# Altium footprint library switches.PcbLib: 11 footprints
Each footprint in its own frame and in the unit in brackets; x right, y up, seen from the top. Pads: shape width x height; smd on the part's side, far side on the other; paste and mask are expansions set on the pad; w line width, h text height; cw(c..) or ccw(c..) is an arc to the next point about the centre after c.
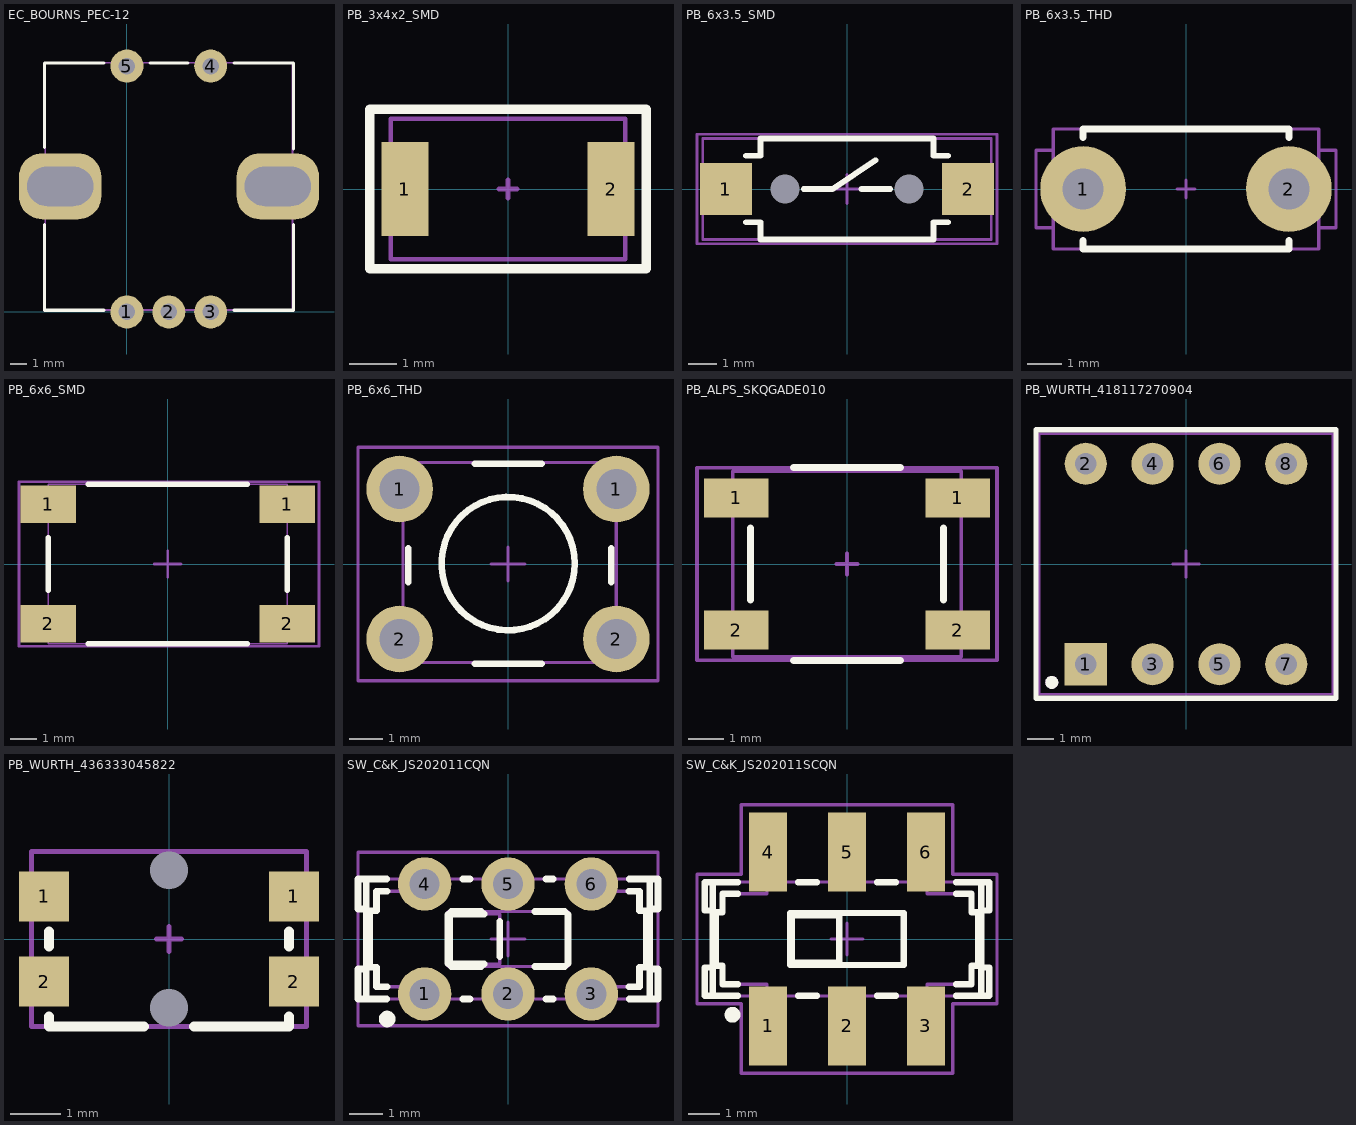
[diagram p0: the footprints below, top view; thin cyan lines are the x and y axes]

## EC_BOURNS_PEC-12 [mm]
pads (7):
  round 2 hole 1: 1(0,0) 2(2.54,0) 3(5.08,0) 4(5.08,14.922) 5(0,14.922)
  rrect70% 5x4 hole 2.4 slot 4 at 0 deg: ""(-4.05,7.625) ""(9.15,7.625)
Top Overlay:
  lines w0.2: -5,5.3 -5,0.1 -1.4,0.1 ; -5,10 -5,15.1 -1.4,15.1 ; 1.4,15.1 3.7,15.1 ; 6.5,0.1 10.1,0.1 10.1,5.3 ; 6.5,15.1 10.1,15.1 10.1,9.9
Mechanical 1:
  lines w0.1: -4.966,0.12 -4.966,15.12 10.046,15.12 10.046,0.12 -4.966,0.12
3D body "User Library-rotacijski enkoder.STEP": height 16.5, standoff -4.53, extent -4.964,0.12 10.044,15.12

## PB_3x4x2_SMD [mm]
pads (2):
  rect 1x2 smd: 1(-2.2,0) 2(2.2,0)
Top Overlay:
  lines w0.2: -2.95,-1.7 -2.95,1.7 2.95,1.7 2.95,-1.7 -2.95,-1.7
Mechanical 1:
  lines w0.1: -2.5,-1.5 2.5,-1.5 2.5,1.5 -2.5,1.5 -2.5,-1.5
Mechanical 15:
  lines w0.1: -0.2,0 0.2,0 ; 0,-0.2 0,0.2 ; -2.95,-1.7 2.95,-1.7 2.95,1.7 -2.95,1.7 -2.95,-1.7
3D body "User Library-Pushbutton3x4x2.step": height 2, standoff 0, extent -2.45,-1.45 2.45,1.45

## PB_6x3.5_SMD [mm]
pads (4):
  rect 1.8x1.8 smd mask+0.075: 1(-4.2,0) 2(4.2,0)
  round 0 hole 1 mask+0.075: ""(-2.15,0) ""(2.15,0)
Top Overlay:
  lines w0.2: -3.5,-1.15 -3,-1.15 -3,-1.75 3,-1.75 3,-1.15 3.5,-1.15 ; -3.5,1.15 -3,1.15 -3,1.75 3,1.75 3,1.15 3.5,1.15 ; -1.5,0 -0.5,0 1,1 ; 0.5,0 1.5,0
Mechanical 1:
  lines w0.1: -1.5,0 -0.5,0 1,1 ; 0.5,0 1.25,0 ; -5,-1.75 -5,1.75 5,1.75 5,-1.75 -5,-1.75
Mechanical 15:
  lines w0.1: -0.5,0 0.5,0 ; 0,-0.5 0,0.5 ; -5.2,-1.9 -5.2,1.9 5.2,1.9 5.2,-1.9 -5.2,-1.9
3D body "User Library-DTSMF-32.STEP": height 5.05, standoff 0, extent -5,-1.75 5,1.75

## PB_6x3.5_THD [mm]
pads (2):
  round 2.5 hole 1.2 mask+0.075: 1(-3,0) 2(3,0)
Top Overlay:
  lines w0.2: -3,-1.5 -3,-1.75 3,-1.75 ; -3,1.5 -3,1.75 3,1.75 ; 3,-1.7 3,-1.5 ; 3,1.5 3,1.7
Mechanical 1:
  lines w0.1: -3.875,-1.75 -3.875,1.75 3.875,1.75 3.875,-1.75 -3.875,-1.75
Mechanical 15:
  lines w0.1: -0.25,0 0.25,0 ; 0,-0.25 0,0.25 ; -4.375,-1.125 -3.875,-1.125 -3.875,-1.75 3.875,-1.75 3.875,-1.125 4.375,-1.125 4.375,1.125 3.875,1.125 3.875,1.75 -3.875,1.75 -3.875,1.125 -4.375,1.125 -4.375,-1.125
3D body "User Library-DTS-32.STEP": height 5.1, standoff -3.41, extent -3.878,-1.75 3.878,1.75

## PB_6x6_SMD [mm] "Leaded Tactile Button 6x6"
height 9
pads (4):
  rect 2.1x1.4 smd: 1(-4.5,2.25) 1(4.5,2.25) 2(-4.5,-2.25) 2(4.5,-2.25)
Top Overlay:
  lines w0.2: -4.5,-1 -4.5,1 ; -3,-3 3,-3 ; -3,3 3,3 ; 4.5,-1 4.5,1
Mechanical 1:
  lines w0.05: -4.5,-3 4.5,-3 4.5,3 -4.5,3 -4.5,-3
Mechanical 15:
  lines w0.1: -0.5,0 0.5,0 ; 0,-0.5 0,0.5 ; -5.6,-3.1 -5.6,3.1 5.7,3.1 5.7,-3.1 -5.6,-3.1
3D body "User Library-PTS645SL43SMTR92-LFS.STEP": height 4.3, standoff 0, extent -4.5,-3 4.5,3

## PB_6x6_THD [mm] "Leaded Tactile Button 6x6"
height 5
pads (4):
  round 2 hole 1.2: 1(-3.25,2.25) 1(3.25,2.25) 2(-3.25,-2.25) 2(3.25,-2.25)
Top Overlay:
  circle w0.2: c0.004,0.012 r2
  lines w0.2: -2.996,-0.544 -2.996,0.472 ; -0.996,-2.988 1.004,-2.988 ; -0.996,3.012 1.004,3.012 ; 3.1,-0.544 3.1,0.472
Mechanical 1:
  lines w0.1: -3.148,-2.957 -3.148,3.043 3.252,3.043 3.252,-2.957 -3.148,-2.957
Mechanical 15:
  lines w0.1: -0.5,0 0.5,0 ; 0,-0.5 0,0.5 ; -4.5,-3.5 4.5,-3.5 4.5,3.5 -4.5,3.5 -4.5,-3.5
3D body "������_��������_6�6�1.STEP": height 4.5, standoff -0.9, extent -3.148,-2.957 3.252,3.043

## PB_ALPS_SKQGADE010 [mm]
pads (4):
  rect 1.8x1.1 smd: 1(-3.1,1.85) 1(3.1,1.85) 2(-3.1,-1.85) 2(3.1,-1.85)
Top Overlay:
  lines w0.2: -2.7,-1 -2.7,1 ; -1.5,-2.7 1.5,-2.7 ; -1.5,2.7 1.5,2.7 ; 2.7,-1 2.7,1
Mechanical 1:
  lines w0.1: -3.2,-2.6 -3.2,2.6 3.2,2.6 3.2,-2.6 -3.2,-2.6
Mechanical 15:
  lines w0.1: -0.3,0 0.3,0 ; 0,-0.3 0,0.3 ; -4.2,-2.7 -4.2,2.7 4.2,2.7 4.2,-2.7 -4.2,-2.7
3D body "User Library-4x4_SMD_Switch.STEP": height 1.45, standoff -0.05, extent -3.2,-2.6 3.2,2.6

## PB_WURTH_418117270904 [mm]
pads (10):
  rect 1.6x1.6 hole 0.8: 1(-3.81,-3.81)
  round 1.6 hole 0.8: 2(-3.81,3.81) 3(-1.27,-3.81) 4(-1.27,3.81) 5(1.27,-3.81) 6(1.27,3.81) 7(3.81,-3.81) 8(3.81,3.81)
  round 0.5 on Mech1: ""(-5.1,-4.5)
  round 0.5 on Top Overlay: ""(-5.1,-4.5)
Top Overlay:
  lines w0.2: -5.7,-5.1 -5.7,5.1 5.7,5.1 5.7,-5.1 -5.7,-5.1
Mechanical 1:
  lines w0.1: -5.58,-4.95 -5.58,4.95 5.58,4.95 5.58,-4.95 -5.58,-4.95
Mechanical 15:
  lines w0.1: -0.5,0 0.5,0 ; 0,-0.5 0,0.5 ; -5.7,-5.1 -5.7,5.1 5.7,5.1 5.7,-5.1 -5.7,-5.1
3D body "418117270904 (rev1).stp": height 6.9, standoff -3.65, extent -5.58,-4.95 5.58,4.95

## PB_WURTH_436333045822 [mm]
pads (6):
  rect 1x1 smd: 1(-2.5,0.85) 1(2.5,0.85) 2(-2.5,-0.85) 2(2.5,-0.85)
  round 0 hole 0.75: MH(0,-1.375) MH(0,1.375)
Top Overlay:
  lines w0.2: -2.4,-1.55 -2.4,-1.75 -0.5,-1.75 ; -2.4,-0.15 -2.4,0.15 ; 0.5,-1.75 2.4,-1.75 2.4,-1.55 ; 2.4,-0.15 2.4,0.15
Mechanical 1:
  lines w0.1: -2.75,-1.75 -2.75,1.75 2.75,1.75 2.75,-1.75 -2.75,-1.75
Mechanical 15:
  lines w0.1: -0.25,0 0.25,0 ; 0,-0.25 0,0.25 ; -2.75,-1.75 2.75,-1.75 2.75,1.75 -2.75,1.75 -2.75,-1.75
3D body "436333045822_Download_STP_436333045822_rev1.stp": height 1.65, standoff -0.5, extent -2.75,-1.75 2.75,2.75

## SW_C&K_JS202011CQN [mm] "Body 9x3.6mm, DPDT Vertical Slide Subminiature Switch, Thru-Hole Mount, JS Series"
height 3.5
pads (6):
  round 1.6 hole 0.9: 1(-2.5,-1.65) 2(0,-1.65) 3(2.5,-1.65) 4(-2.5,1.65) 5(0,1.65) 6(2.5,1.65)
Top Overlay:
  circle w0.25: c-3.625,-2.4 r0.125
  lines w0.2: -4.25,-1.8 -4.25,1.8 ; -4.25,-0.9 -4.5,-0.9 -4.5,-1.8 -3.64,-1.8 ; -4.25,0.9 -4.5,0.9 -4.5,1.8 -3.64,1.8 ; -3.63,-1.435 -3.943,-1.435 -3.943,-0.85 -4.153,-0.85 -4.153,0.85 -3.943,0.85 -3.943,1.435 -3.63,1.435 ; -1.801,-0.737 -1.801,0.737 ; -1.698,-0.826 -0.802,-0.826 ; -1.698,0.826 -0.802,0.826 ; -1.36,-1.8 -1.14,-1.8 ; -1.36,1.8 -1.14,1.8 ; -0.716,-0.75 -1.75,-0.75 -1.75,0.75 -0.716,0.75 ; -0.25,-0.528 -0.25,0.528 ; 0.802,-0.826 1.698,-0.826 ; 0.802,0.826 1.698,0.826 ; 1.14,-1.8 1.36,-1.8 ; 1.14,1.8 1.36,1.8 ; 1.801,-0.737 1.801,0.737 ; 3.63,-1.435 3.943,-1.435 3.943,-0.85 4.153,-0.85 4.153,0.85 3.943,0.85 3.943,1.435 3.63,1.435 ; 3.64,-1.8 4.5,-1.8 4.5,-0.9 4.25,-0.9 ; 3.64,1.8 4.5,1.8 4.5,0.9 4.25,0.9 ; 4.25,-1.8 4.25,1.8
Mechanical 1:
  lines w0.1: -4.25,-1.8 -4.25,1.8 ; -4.25,-0.9 -4.5,-0.9 -4.5,-1.8 4.5,-1.8 4.5,-0.9 4.25,-0.9 ; -4.25,0.9 -4.5,0.9 -4.5,1.8 4.5,1.8 4.5,0.9 4.25,0.9 ; -2.538,-1.8 -2.538,-1.435 -3.943,-1.435 -3.943,-0.85 -4.153,-0.85 -4.153,0.85 -3.943,0.85 -3.943,1.435 -2.538,1.435 -2.538,1.8 ; 2.538,-1.8 2.538,-1.435 3.943,-1.435 3.943,-0.85 4.153,-0.85 4.153,0.85 3.943,0.85 3.943,1.435 2.538,1.435 2.538,1.8 ; 4.25,-1.8 4.25,1.8 ; -1.801,-0.826 1.801,-0.826 1.801,0.826 -1.801,0.826 -1.801,-0.826 ; -1.75,-0.75 -1.75,0.75 -0.25,0.75 -0.25,-0.75 -1.75,-0.75
Mechanical 15:
  lines w0.1: -0.5,0 0,0 ; 0,-0.5 0,0 ; 0,0.5 0,0 ; 0.5,0 0,0 ; -4.5,-2.6 -4.5,2.6 4.5,2.6 4.5,-2.6 -4.5,-2.6
3D body "SW_C&K_JS202011CQN.stp": height 5.5, standoff -3, extent -4.5,-1.8 4.5,1.8

## SW_C&K_JS202011SCQN [mm] "Body 9x3.6mm, DPDT Vertical Slide Subminiature Switch, Surface Mount, JS Series"
height 3.5
pads (6):
  rect 1.2x2.5 smd: 1(-2.5,-2.75) 2(0,-2.75) 3(2.5,-2.75) 4(-2.5,2.75) 5(0,2.75) 6(2.5,2.75)
Top Overlay:
  circle w0.25: c-3.625,-2.4 r0.125
  lines w0.2: -4.25,-1.8 -4.25,1.8 ; -4.25,-0.9 -4.5,-0.9 -4.5,-1.8 -3.45,-1.8 ; -4.25,0.9 -4.5,0.9 -4.5,1.8 -3.45,1.8 ; -3.45,-1.435 -3.943,-1.435 -3.943,-0.85 -4.153,-0.85 -4.153,0.85 -3.943,0.85 -3.943,1.435 -3.45,1.435 ; -1.55,-1.8 -0.95,-1.8 ; -1.55,1.8 -0.95,1.8 ; 0.95,-1.8 1.55,-1.8 ; 0.95,1.8 1.55,1.8 ; 3.45,-1.8 4.5,-1.8 4.5,-0.9 4.25,-0.9 ; 3.45,-1.435 3.943,-1.435 3.943,-0.85 4.153,-0.85 4.153,0.85 3.943,0.85 3.943,1.435 3.45,1.435 ; 3.45,1.8 4.5,1.8 4.5,0.9 4.25,0.9 ; 4.25,-1.8 4.25,1.8 ; -1.801,-0.826 1.801,-0.826 1.801,0.826 -1.801,0.826 -1.801,-0.826 ; -1.75,-0.75 -1.75,0.75 -0.25,0.75 -0.25,-0.75 -1.75,-0.75
Mechanical 1:
  lines w0.1: -4.25,-1.8 -4.25,1.8 ; -4.25,-0.9 -4.5,-0.9 -4.5,-1.8 4.5,-1.8 4.5,-0.9 4.25,-0.9 ; -4.25,0.9 -4.5,0.9 -4.5,1.8 4.5,1.8 4.5,0.9 4.25,0.9 ; -2.8,-1.8 -2.8,-3.75 -2.2,-3.75 -2.2,-1.8 ; -2.8,1.8 -2.8,3.75 -2.2,3.75 -2.2,1.8 ; -2.538,-1.8 -2.538,-1.435 -3.943,-1.435 -3.943,-0.85 -4.153,-0.85 -4.153,0.85 -3.943,0.85 -3.943,1.435 -2.538,1.435 -2.538,1.8 ; -0.3,-1.8 -0.3,-3.75 0.3,-3.75 0.3,-1.8 ; -0.3,1.8 -0.3,3.75 0.3,3.75 0.3,1.8 ; 2.2,-1.8 2.2,-3.75 2.8,-3.75 2.8,-1.8 ; 2.2,1.8 2.2,3.75 2.8,3.75 2.8,1.8 ; 2.538,-1.8 2.538,-1.435 3.943,-1.435 3.943,-0.85 4.153,-0.85 4.153,0.85 3.943,0.85 3.943,1.435 2.538,1.435 2.538,1.8 ; 4.25,-1.8 4.25,1.8 ; -1.801,-0.826 1.801,-0.826 1.801,0.826 -1.801,0.826 -1.801,-0.826 ; -1.75,-0.75 -0.25,-0.75 -0.25,0.75 -1.75,0.75 -1.75,-0.75
Mechanical 15:
  lines w0.1: -0.5,0 0,0 ; 0,-0.5 0,0 ; 0,0.5 0,0 ; 0.5,0 0,0 ; -4.75,-2.05 -3.35,-2.05 -3.35,-4.25 3.35,-4.25 3.35,-2.05 4.75,-2.05 4.75,2.05 3.35,2.05 3.35,4.25 -3.35,4.25 -3.35,2.05 -4.75,2.05 -4.75,-2.05
3D body "SW_C&K_JS202011SCQN.stp": height 5.5, standoff 0, extent -4.5,-3.75 4.5,3.75